# Altium schematic symbol library SCH - CRYSTALS - MICRO CRYSTAL CM8V.SCHLIB: 1 symbol
Pins are listed as number, name and electrical type; pins without a type are passive.

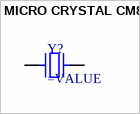
[diagram p0: symbol MICRO CRYSTAL CM8V]

## MICRO CRYSTAL CM8V
designator Y?
SMT Crystal
pins: 1, 2